# EAGLE library part TXB0102 (library dooba)
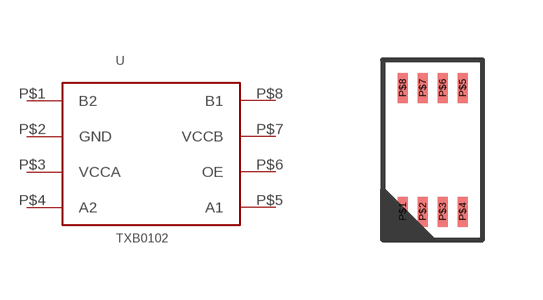
[diagram p45: symbol with the pads of VSSOP8; footprint VSSOP8]

Designator prefix U

## TXB0102  [VSSOP8]
P$1  B2
P$2  GND
P$3  VCCA
P$4  A2
P$5  A1
P$6  OE
P$7  VCCB
P$8  B1

## Footprint VSSOP8 (pad centres in mm)
smd 0.25 x 0.75: P$1 -0.75,-1.55; P$2 -0.25,-1.55; P$3 0.25,-1.55; P$4 0.75,-1.55; P$5 0.75,1.55; P$6 0.25,1.55; P$7 -0.25,1.55; P$8 -0.75,1.55